# EAGLE library part SINGLE_OPAMP (library greghale_eib_preamp)
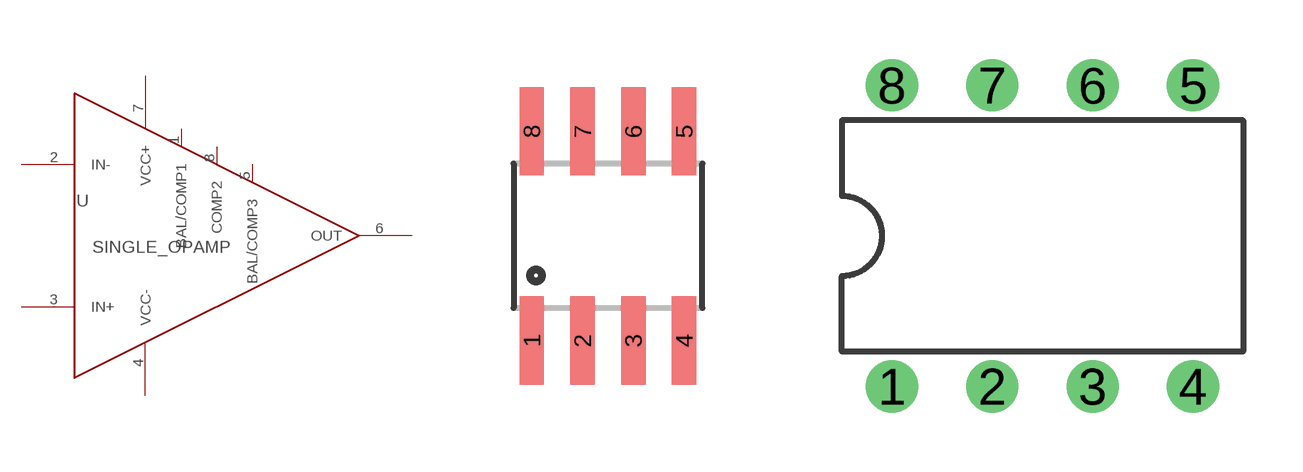
[diagram p3: symbol with the pads of SOIC8; footprints SOIC8, DIL08]

Designator prefix -

## SINGLE_OPAMPLM318_SMD  [SOIC8]
1  BAL/COMP1
2  IN-
3  IN+
4  VCC-
5  BAL/COMP3
6  OUT
7  VCC+
8  COMP2

## SINGLE_OPAMP  [DIL08]
Pads as for SOIC8

## Footprint SOIC8 (pad centres in mm)
smd 0.61 x 2.21: 1 -1.905,-2.616; 2 -0.635,-2.616; 3 0.635,-2.616; 4 1.905,-2.616; 5 1.905,2.616; 6 0.635,2.616; 7 -0.635,2.616; 8 -1.905,2.616

## Footprint DIL08 (pad centres in mm)
Dual In Line Package
drill 0.813 pad 1.27 round: 1 -3.81,-3.81; 2 -1.27,-3.81; 3 1.27,-3.81; 4 3.81,-3.81; 5 3.81,3.81; 6 1.27,3.81; 7 -1.27,3.81; 8 -3.81,3.81